# Altium schematic symbol library AQW414EHA.SchLib: 1 symbol
Pins are listed as number, name and electrical type; pins without a type are passive.

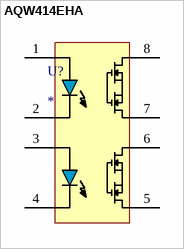
[diagram p0: symbol AQW414EHA]

## AQW414EHA
designator U?
RELAY OPTO DPST-NC 100MA 8-SMD
footprint 8-SMDGW
pins: 1 1A, 2 1C, 3 2A, 4 2C, 5 *, 6 *, 7 *, 8 *